# EAGLE library part 0395021012 (library con-molex)
TERM BLOCK HDR 12POS
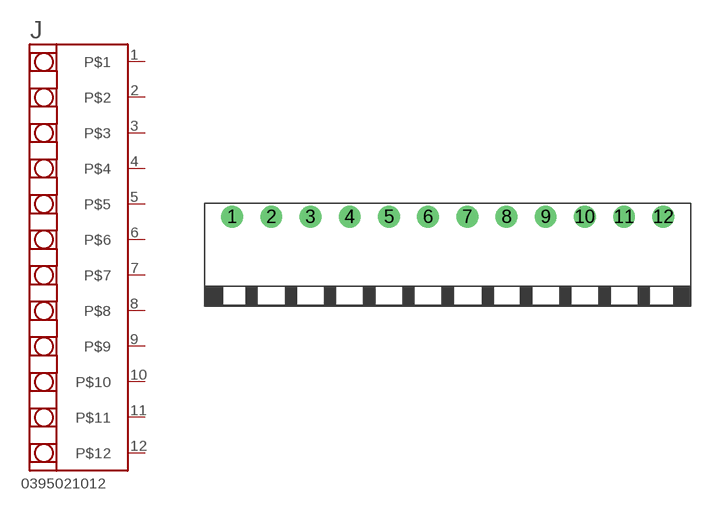
[diagram p1: symbol with the pads of 0395021012; footprint 0395021012]

Designator prefix J

## 0395021012 (ASSOC: WM7742-ND; DIGIKEY: WM7780-ND; MFR: Molex; MPN: 0395021012)  [0395021012]
1  P$1
2  P$2
3  P$3
4  P$4
5  P$5
6  P$6
7  P$7
8  P$8
9  P$9
10  P$10
11  P$11
12  P$12

## Footprint 0395021012 (pad centres in mm)
drill 1.3: 1 -15.75,0; 2 -12.25,0; 3 -8.75,0; 4 -5.25,0; 5 -1.75,0; 6 1.75,0; 7 5.25,0; 8 8.75,0; 9 12.25,0; 10 15.75,0; 11 19.25,0; 12 22.75,0